# EAGLE library part SATA-CON (library SeCloud)
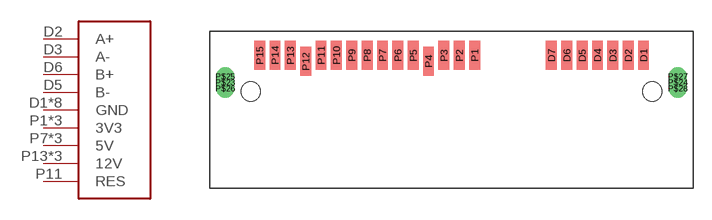
[diagram p1: symbol with the pads of SATA-CON; footprint SATA-CON]

Designator prefix -

## SATA-CON  [SATA-CON]
D1  GND
D2  A+
D3  A-
D4  GND
D5  B-
D6  B+
D7  GND
P1  3V3
P2  3V3
P3  3V3
P4  GND
P5  GND
P6  GND
P7  5V
P8  5V
P9  5V
P10  GND
P11  RES
P12  GND
P13  12V
P14  12V
P15  12V

## Footprint SATA-CON (pad centres in mm)
smd 0.9 x 2.4: D1 15.88,0; D2 14.61,0; D3 13.34,0; D4 12.07,0; D5 10.8,0; D6 9.53,0; D7 8.26,0; P1 1.91,0; P2 0.64,0; P3 -0.63,0; P4 -1.9,-0.5; P5 -3.17,0; P6 -4.44,0; P7 -5.71,0; P8 -6.98,0; P9 -8.25,0; P10 -9.52,0; P11 -10.79,0; P12 -12.06,-0.5; P13 -13.33,0; P14 -14.6,0; P15 -15.87,0
drill 1: P$23 -18.71,-2.24; P$24 18.71,-2.24; P$25 -18.71,-1.74; P$26 -18.71,-2.74; P$27 18.71,-1.74; P$28 18.71,-2.74
hole 1.6 at -16.595,-3
hole 1.6 at 16.595,-3